# Altium footprint library 0R_10.PcbLib: 1 footprints
Each footprint in its own frame and in the unit in brackets; x right, y up, seen from the top. Pads: shape width x height; smd on the part's side, far side on the other; paste and mask are expansions set on the pad; w line width, h text height; cw(c..) or ccw(c..) is an arc to the next point about the centre after c.
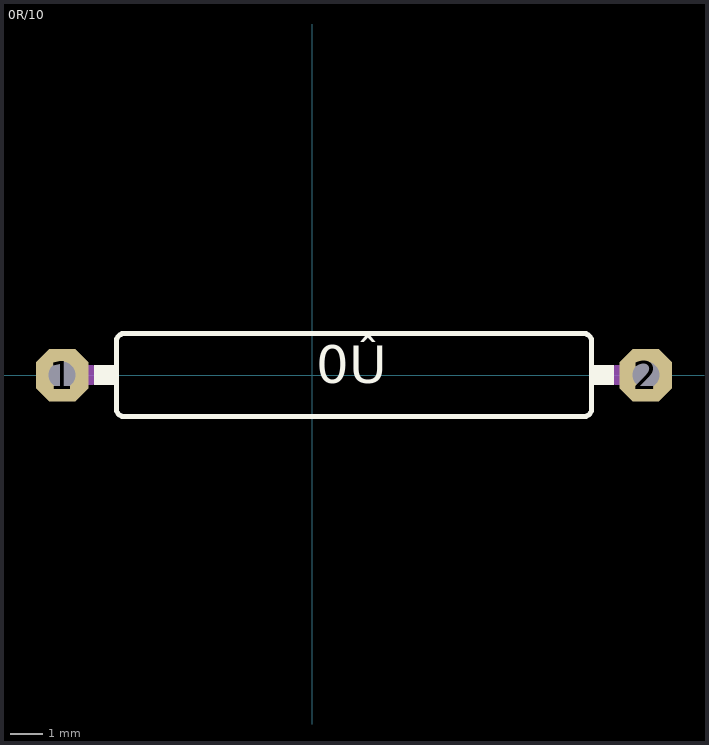
[diagram p0: the footprint, top view; thin cyan lines are the x and y axes]

## 0R/10 [mil]
pads (2):
  oct 63x63 hole 32: 1(-300,0) 2(400,0)
Top Overlay:
  rectangle: 335,-12 362,12
  rectangle: -262,-12 -235,12
  lines w6: -235,-40 ccw(c-225,-40) -225,-50 325,-50 ccw(c325,-40) 335,-40 335,40 ccw(c325,40) 325,50 -225,50 ccw(c-225,40) -235,40 -235,-40
  text "0Û" at 5,-25 h77.5
Mechanical 16:
  lines w24: -300,0 -265,0 ; 365,0 400,0